# Altium schematic symbol library Schlib1.SchLib: 1 symbol
Pins are listed as number, name and electrical type; pins without a type are passive.

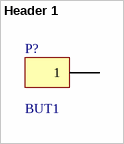
[diagram p0: symbol Header 1]

## Header 1
designator P?, comment BUT1
Part_Type: Connector; Manufacturer_Part_Number: *; Manufacturer: *; CHIPIDIP-code: *
footprint HDR1X2 (Connector; Header; 2 Position)
signal-integrity model Connector
footprint 1pin-smd
pins: 1